# EAGLE library part HMC5883L (library microbuilder)
HMC5883L 3-Axis Digital Compass
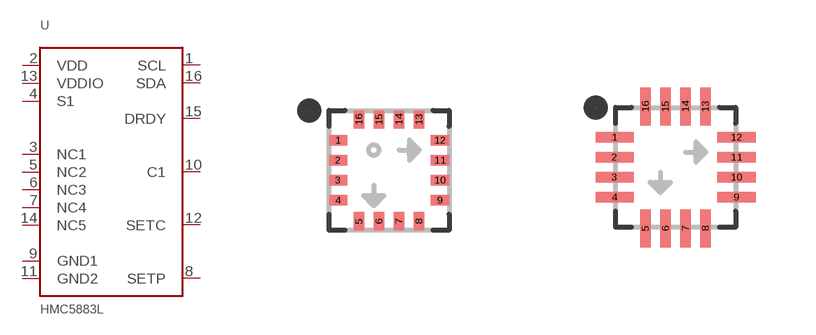
[diagram p110: symbol with the pads of HMC5883L; footprints HMC5883L, HMC5883L_EXTENDED]

Designator prefix U

## HMC5883L  [HMC5883L]
1  SCL
2  VDD
3  NC1
4  S1
5  NC2
6  NC3
7  NC4
8  SETP
9  GND1
10  C1
11  GND2
12  SETC
13  VDDIO
14  NC5
15  DRDY
16  SDA

## HMC5883LEXT  [HMC5883L_EXTENDED]
Pads as for HMC5883L

## Footprint HMC5883L (pad centres in mm)
smd 0.45 x 0.26: 1 -1.275,0.75; 2 -1.275,0.25; 3 -1.275,-0.25; 4 -1.275,-0.75; 9 1.275,-0.75; 10 1.275,-0.25; 11 1.275,0.25; 12 1.275,0.75
smd 0.26 x 0.45: 5 -0.75,-1.275; 6 -0.25,-1.275; 7 0.25,-1.275; 8 0.75,-1.275; 13 0.75,1.275; 14 0.25,1.275; 15 -0.25,1.275; 16 -0.75,1.275

## Footprint HMC5883L_EXTENDED (pad centres in mm)
smd 0.95 x 0.26: 1 -1.525,0.75; 2 -1.525,0.25; 3 -1.525,-0.25; 4 -1.525,-0.75; 9 1.525,-0.75; 10 1.525,-0.25; 11 1.525,0.25; 12 1.525,0.75
smd 0.26 x 0.95: 5 -0.75,-1.525; 6 -0.25,-1.525; 7 0.25,-1.525; 8 0.75,-1.525; 13 0.75,1.525; 14 0.25,1.525; 15 -0.25,1.525; 16 -0.75,1.525